# Altium schematic symbol library charge_controller_parts.SchLib: 2 symbols
Pins are listed as number, name and electrical type; pins without a type are passive.

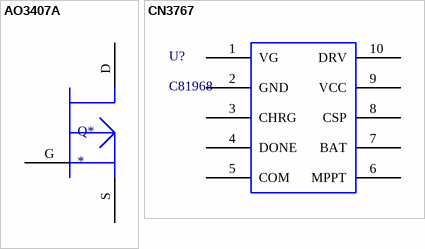
[diagram p0: symbols AO3407A to CN3767]

## AO3407A
designator Q*
footprint AO3407A (Footprint not found)
pins: D 14, G 13, S 15

## CN3767
designator U?, comment C81968
footprint CN3767
pins: 1 VG, 2 GND, 3 CHRG, 4 DONE, 5 COM, 6 MPPT, 7 BAT, 8 CSP, 9 VCC, 10 DRV